# Altium footprint library Footprints.PcbLib: 132 footprints (part 1 of 9)
Each footprint in its own frame and in the unit in brackets; x right, y up, seen from the top. Pads: shape width x height; smd on the part's side, far side on the other; paste and mask are expansions set on the pad; w line width, h text height; cw(c..) or ccw(c..) is an arc to the next point about the centre after c.
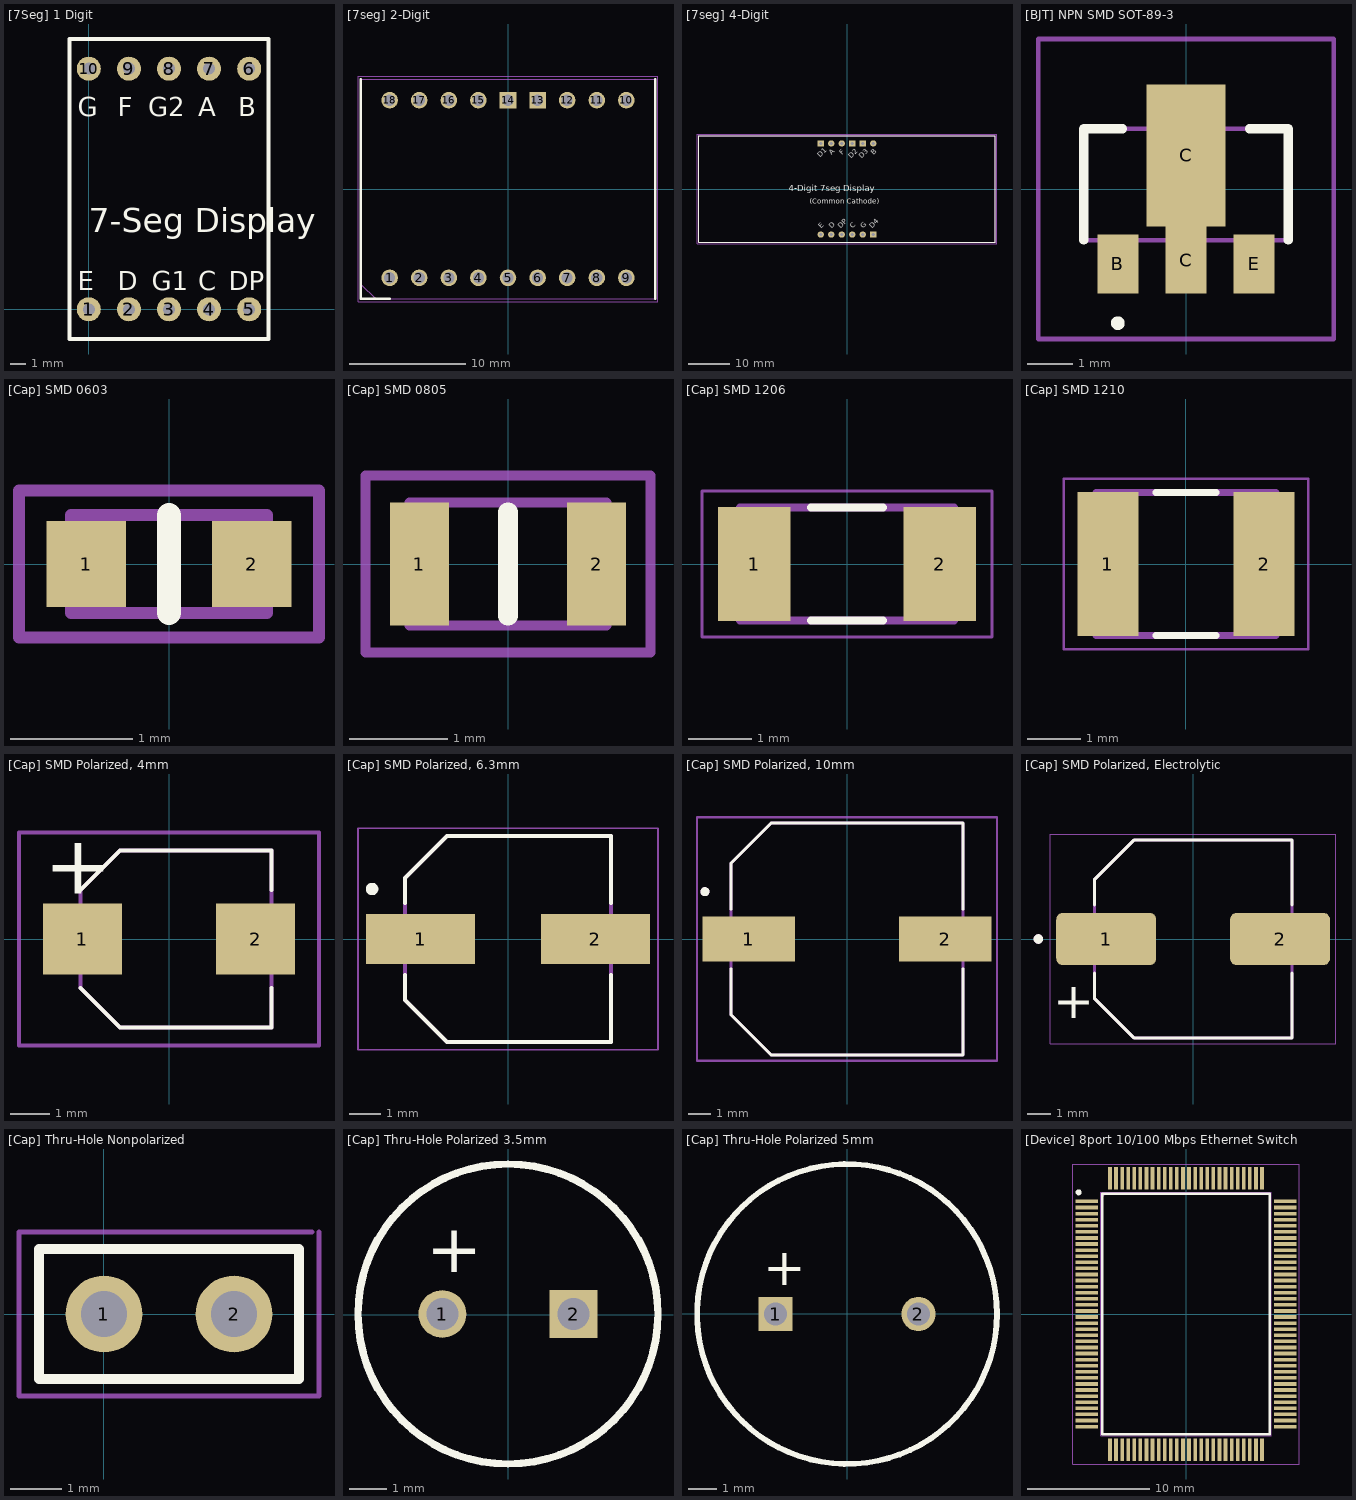
[diagram p0: the footprints below, top view; thin cyan lines are the x and y axes]

## [7Seg] 1 Digit [mil]
pads (10):
  round 60 hole 30: 1(0,0) 2(100,0) 3(200,0) 4(300,0) 5(400,0) 6(400,600) 7(300,600) 8(200,600) 9(100,600) 10(0,600)
Top Overlay:
  lines w10: -48.03,-74.02 -48.03,674.02 448.03,674.02 448.03,-74.02 -48.03,-74.02
  text "G1" at 156.7,47.24 h47.24
  text "DP" at 348.83,47.24 h47.24
  text "G2" at 148.83,481.91 h47.24
  text "G" at -27.55,481.91 h47.24
  text "F" at 72.45,481.91 h47.24
  text "A" at 272.45,481.91 h47.24
  text "B" at 372.45,481.91 h47.24
  text "C" at 272.45,47.24 h47.24
  text "D" at 72.45,47.24 h47.24
  text "E" at -27.55,47.24 h47.24
  text "7-Seg Display" at 0.06,192.03 h60
3D body "7seg display.step": height 315.35, standoff -157.48, extent -50,-74.02 450,674.02

## [7seg] 2-Digit [mm]
pads (18):
  round 1.425 hole 0.95: 1(-10.16,-7.62) 2(-7.62,-7.62) 3(-5.08,-7.62) 4(-2.54,-7.62) 5(0,-7.62) 6(2.54,-7.62) 7(5.08,-7.62) 8(7.62,-7.62) 9(10.16,-7.62) 10(10.16,7.62) 11(7.62,7.62) 12(5.08,7.62) 15(-2.54,7.62) 16(-5.08,7.62) 17(-7.62,7.62) 18(-10.16,7.62)
  rect 1.425x1.425 hole 0.95: 13(2.54,7.62) 14(0,7.62)
Top Overlay:
  lines w0.2: -12.625,9.425 -12.625,-9.425 -10.16,-9.425 ; 12.625,-9.425 12.625,9.425
Physical Outline:
  lines w0.1: -12.625,-8.155 -11.355,-9.425 ; -12.625,-9.425 12.625,-9.425 12.625,9.425 -12.625,9.425 -12.625,-9.425
Part Border:
  lines w0.05: -12.875,-9.675 12.875,-9.675 12.875,9.675 -12.875,9.675 -12.875,-9.675
3D body "HDSP-521E.stp": height 9.64, standoff -2.63, extent -12.5,-9.35 12.5,9.25

## [7seg] 4-Digit [mil]
pads (12):
  round 60 hole 30: 1(-250,-433.07) 2(-150,-433.07) 3(-50,-433.07) 4(50,-433.07) 5(150,-433.07) 7(250,433.07) 10(-50,433.07) 11(-150,433.07)
  rect 60x60 hole 30: 6(250,-433.07) 8(150,433.07) 9(50,433.07) 12(-250,433.07)
Top Overlay:
  lines w10: -1409.45,-505.91 1409.45,-505.91 1409.45,505.91 -1409.45,505.91 -1409.45,-505.91
  text "D1" at -255.57,299.07 h47.24
  text "A" at -144.43,321.34 h47.24
  text "F" at -44.43,321.34 h47.24
  text "D2" at 38.87,287.94 h47.24
  text "D3" at 138.87,287.94 h47.24
  text "B" at 255.57,321.34 h47.24
  text "4-Digit 7seg Display" at -555.92,-19.68 h59.06
  text "E" at -244.43,-377 h47.24
  text "D" at -144.43,-377 h47.24
  text "DP" at -61.13,-377 h47.24
  text "C" at 55.57,-377 h47.24
  text "G" at 155.57,-377 h47.24
  text "D4" at 238.87,-377 h47.24
  text "(Common Cathode)" at -354.22,-141.72 h47.24
Part Border:
  lines w3.94: -1427.17,-521.65 1427.17,-521.65 1427.17,521.65 -1427.17,521.65 -1427.17,-521.65
  lines w10: -1409.45,-505.91 1409.45,-505.91 1409.45,505.91 -1409.45,505.91 -1409.45,-505.91
3D body "4-digit 7seg Display.step": height 354.33, standoff -267.32, extent -1415.35,-509.84 1415.35,509.84

## [BJT] NPN SMD SOT-89-3 [mm]
pads (4):
  rect 0.9x1.3 smd: B(-1.5,-1.65) E(1.5,-1.65)
  rect 0.9x1.475 smd: C(0,-1.562)
  rect 1.733x3.125 smd: C(0,0.738)
Top Overlay:
  lines w0.2: -2.25,-1.125 -2.25,1.325 -1.4,1.325 ; 1.4,1.325 2.25,1.325 2.25,-1.125 ; -1.5,-3 ccw(c-1.5,-2.95) -1.5,-2.9 ; -1.5,-3 cw(c-1.5,-2.95) -1.5,-2.9 ; -1.5,-3 ccw(c-1.5,-2.95) -1.5,-2.9
Physical Outline:
  lines w0.1: -2.25,-1.125 2.25,-1.125 2.25,1.325 -2.25,1.325 -2.25,-1.125
Part Border:
  lines w0.1: -3.25,-3.3 3.25,-3.3 3.25,3.3 -3.25,3.3 -3.25,-3.3
3D body "ZXTN4006ZTA.stp": height 1.7, standoff 0, extent -2.25,-2.17 2.25,2.167

## [Cap] SMD 0603 [mm]
pads (2):
  rect 0.65x0.7 smd: 1(-0.675,0) 2(0.675,0)
Top Overlay:
  lines w0.2: 0,-0.4 0,0.4
Physical Outline:
  lines w0.1: -0.8,-0.4 0.8,-0.4 0.8,0.4 -0.8,0.4 -0.8,-0.4
Part Border:
  lines w0.1: -1.225,-0.6 1.225,-0.6 1.225,0.6 -1.225,0.6 -1.225,-0.6
3D body "GRM188C80J226ME01D.stp": height 0.8, standoff 0, extent -0.8,-0.45 0.8,0.45

## [Cap] SMD 0805 [mm]
pads (2):
  rect 0.6x1.25 smd: 1(-0.9,0) 2(0.9,0)
Top Overlay:
  lines w0.2: 0,-0.525 0,0.525
Physical Outline:
  lines w0.1: -1,-0.625 -1,0.625 1,0.625 1,-0.625 -1,-0.625
Part Border:
  lines w0.1: -1.45,-0.9 1.45,-0.9 1.45,0.9 -1.45,0.9 -1.45,-0.9
3D body "SMD Capacitor [0805].stp": height 1, standoff 0, extent -1,-0.625 1,0.625

## [Cap] SMD 1206 [mm]
pads (2):
  rect 1.16x1.82 smd: 1(-1.475,0) 2(1.475,0)
Top Overlay:
  lines w0.127: -0.57,-0.9 0.57,-0.9 ; -0.57,0.9 0.57,0.9
Physical Outline:
  lines w0.127: -1.7,-0.9 1.7,-0.9 1.7,0.9 -1.7,0.9 -1.7,-0.9
Part Border:
  lines w0.05: -2.308,-1.158 2.308,-1.158 2.308,1.158 -2.308,1.158 -2.308,-1.158
3D body "SMD Capacitor [1206].STEP": height 0.88, standoff 0, extent -1.6,-0.8 1.6,0.8

## [Cap] SMD 1210 [mm]
pads (2):
  rect 1.16x2.72 smd: 1(-1.475,0) 2(1.475,0)
Top Overlay:
  lines w0.127: -0.57,-1.35 0.57,-1.35 ; -0.57,1.35 0.57,1.35
Physical Outline:
  lines w0.127: -1.7,-1.35 1.7,-1.35 1.7,1.35 -1.7,1.35 -1.7,-1.35
Part Border:
  lines w0.05: -2.308,-1.608 2.308,-1.608 2.308,1.608 -2.308,1.608 -2.308,-1.608
3D body "SMD Capacitor [1210].STEP": height 1.9, standoff 0, extent -1.6,-1.25 1.6,1.25

## [Cap] SMD Polarized, 4mm [mm]
pads (2):
  rect 2x1.8 smd: 1(-2.2,0) 2(2.2,0)
Top Overlay:
  lines w0.1: -2.25,-1.25 -1.25,-2.25 2.6,-2.25 2.6,-1.25 ; -2.25,1.25 -1.25,2.25 2.6,2.25 2.6,1.25
  text "+" at -3.167,1.155 h1.5
Physical Outline:
  lines w0.1: -2.25,-1.25 -2.25,1.25 -1.25,2.25 2.6,2.25 2.6,-2.25 -1.25,-2.25 -2.25,-1.25
Part Border:
  lines w0.1: -3.81,-2.7 -3.81,2.7 3.81,2.7 3.81,-2.7 -3.81,-2.7
3D body "SMD Polarized Cap - 4mm.stp": height 5.66, standoff 0, extent -2.6,-2.25 2.6,2.25

## [Cap] SMD Polarized, 6.3mm [mm]
pads (2):
  rect 3.5x1.6 smd: 1(-2.8,0) 2(2.8,0)
Top Overlay:
  circle w0.2: c-4.35,1.6 r0.1
  lines w0.127: -3.3,-1.15 -3.3,-1.95 -1.95,-3.3 3.3,-3.3 3.3,-1.15 ; -3.3,1.15 -3.3,1.95 -1.95,3.3 3.3,3.3 3.3,1.15
Physical Outline:
  lines w0.127: -3.3,-1.95 -1.95,-3.3 3.3,-3.3 3.3,3.3 -1.95,3.3 -3.3,1.95 -3.3,-1.95
Part Border:
  lines w0.05: -4.8,-3.55 4.8,-3.55 4.8,3.55 -4.8,3.55 -4.8,-3.55
3D body "[Cap] SMD Polarized 6.3mm.stp": height 5.9, standoff 0, extent -3.65,-3.3 3.65,3.3

## [Cap] SMD Polarized, 10mm [mm]
pads (2):
  rect 4.1x2 smd: 1(-4.35,0) 2(4.35,0)
Top Overlay:
  circle w0.2: c-6.3,2.1 r0.1
  lines w0.127: -5.15,-1.32 -5.15,-3.35 -3.35,-5.15 5.15,-5.15 5.15,-1.32 ; -5.15,1.32 -5.15,3.35 -3.35,5.15 5.15,5.15 5.15,1.32
Physical Outline:
  circle w0.2: c-6.3,2.1 r0.1
  lines w0.127: -5.15,-3.35 -5.15,3.35 -3.35,5.15 5.15,5.15 5.15,-5.15 -3.35,-5.15 -5.15,-3.35
Part Border:
  lines w0.1: -6.65,-5.4 6.65,-5.4 6.65,5.4 -6.65,5.4 -6.65,-5.4
3D body "step_temp.STEP": height 9.3, standoff -0.9, extent -5.85,-5.15 5.85,5.15

## [Cap] SMD Polarized, Electrolytic [mm]
pads (2):
  rrect25% 4.2x2.2 smd: 1(-3.65,0) 2(3.65,0)
Top Overlay:
  circle w0.2: c-6.5,0 r0.1
  lines w0.127: -4.15,-1.42 -4.15,-2.49 -2.49,-4.15 4.15,-4.15 4.15,-1.42 ; -4.15,1.42 -4.15,2.49 -2.49,4.15 4.15,4.15 4.15,1.42
  text "+" at -5.88,-3.336 h1.5
Physical Outline:
  circle w0.2: c-6.5,0 r0.1
  lines w0.127: -4.15,-2.49 -4.15,2.49 -2.49,4.15 4.15,4.15 4.15,-4.15 -2.49,-4.15 -4.15,-2.49
Part Border:
  lines w0.05: -6,-4.4 -6,4.4 6,4.4 6,-4.4 -6,-4.4
3D body "SMD Electrolytic Al Cap.STEP": height 5.4, standoff 0, extent -2.5,-2.15 2.5,2.15

## [Cap] Thru-Hole Nonpolarized [mm]
pads (2):
  round 1.5 hole 0.9: 1(0,0) 2(2.54,0)
Top Overlay:
  lines w0.2: -1.27,-1.27 -1.27,1.27 3.81,1.27 3.81,-1.27 -1.27,-1.27
Part Border:
  lines w0.1: 4.064,1.6 -1.66,1.6 -1.66,-1.6 4.2,-1.6 4.2,1.6
3D body "10pF Ceramic Disc 2.STEP": height 6.35, standoff -7.68, extent -1.08,-1.25 3.62,1.25

## [Cap] Thru-Hole Polarized 3.5mm [mm] "3.5mm"
pads (2):
  round 1.275 hole 0.85: 1(-1.75,0.018)
  rect 1.275x1.275 hole 0.85: 2(1.75,0.018)
Top Overlay:
  circle w0.2: c0,0.018 r4
  text "+" at -2.183,1.128 h1.3
Part Border:
  circle w0.1: c0,0.018 r4
3D body "Thru-Hole Polarized Cap.stp": height 13, standoff -10, extent -4.244,-4.247 4.244,4.247

## [Cap] Thru-Hole Polarized 5mm [mm] "5mm"
pads (2):
  rect 1.2x1.2 hole 0.8: 1(-2.5,0)
  round 1.2 hole 0.8: 2(2.5,0)
Top Overlay:
  circle w0.2: c0,0 r5.25
  text "+" at -2.933,1.001 h1.3
Physical Outline:
  circle w0.1: c0,0 r5.25
3D body "MAL214236102E3.stp": height 22, standoff -10, extent -5.25,-5.238 5.25,5.238

## [Device] 8port 10/100 Mbps Ethernet Switch [mm] "KSZ8997"
pads (128):
  rect 1.85x0.3 smd: 1(-8.15,9.25) 2(-8.15,8.75) 3(-8.15,8.25) 4(-8.15,7.75) 5(-8.15,7.25) 6(-8.15,6.75) 7(-8.15,6.25) 8(-8.15,5.75) 9(-8.15,5.25) 10(-8.15,4.75) 11(-8.15,4.25) 12(-8.15,3.75) 13(-8.15,3.25) 14(-8.15,2.75) 15(-8.15,2.25) 16(-8.15,1.75) 17(-8.15,1.25) 18(-8.15,0.75) 19(-8.15,0.25) 20(-8.15,-0.25) 21(-8.15,-0.75) 22(-8.15,-1.25) 23(-8.15,-1.75) 24(-8.15,-2.25) 25(-8.15,-2.75) 26(-8.15,-3.25) 27(-8.15,-3.75) 28(-8.15,-4.25) 29(-8.15,-4.75) 30(-8.15,-5.25) 31(-8.15,-5.75) 32(-8.15,-6.25) 33(-8.15,-6.75) 34(-8.15,-7.25) 35(-8.15,-7.75) 36(-8.15,-8.25) 37(-8.15,-8.75) 38(-8.15,-9.25) 65(8.15,-9.25) 66(8.15,-8.75) 67(8.15,-8.25) 68(8.15,-7.75) 69(8.15,-7.25) 70(8.15,-6.75) 71(8.15,-6.25) 72(8.15,-5.75) 73(8.15,-5.25) 74(8.15,-4.75) 75(8.15,-4.25) 76(8.15,-3.75) 77(8.15,-3.25) 78(8.15,-2.75) 79(8.15,-2.25) 80(8.15,-1.75) 81(8.15,-1.25) 82(8.15,-0.75) 83(8.15,-0.25) 84(8.15,0.25) 85(8.15,0.75) 86(8.15,1.25) 87(8.15,1.75) 88(8.15,2.25) 89(8.15,2.75) 90(8.15,3.25) 91(8.15,3.75) 92(8.15,4.25) 93(8.15,4.75) 94(8.15,5.25) 95(8.15,5.75) 96(8.15,6.25) 97(8.15,6.75) 98(8.15,7.25) 99(8.15,7.75) 100(8.15,8.25) 101(8.15,8.75) 102(8.15,9.25)
  rect 0.3x1.85 smd: 39(-6.25,-11.15) 40(-5.75,-11.15) 41(-5.25,-11.15) 42(-4.75,-11.15) 43(-4.25,-11.15) 44(-3.75,-11.15) 45(-3.25,-11.15) 46(-2.75,-11.15) 47(-2.25,-11.15) 48(-1.75,-11.15) 49(-1.25,-11.15) 50(-0.75,-11.15) 51(-0.25,-11.15) 52(0.25,-11.15) 53(0.75,-11.15) 54(1.25,-11.15) 55(1.75,-11.15) 56(2.25,-11.15) 57(2.75,-11.15) 58(3.25,-11.15) 59(3.75,-11.15) 60(4.25,-11.15) 61(4.75,-11.15) 62(5.25,-11.15) 63(5.75,-11.15) 64(6.25,-11.15) 103(6.25,11.15) 104(5.75,11.15) 105(5.25,11.15) 106(4.75,11.15) 107(4.25,11.15) 108(3.75,11.15) 109(3.25,11.15) 110(2.75,11.15) 111(2.25,11.15) 112(1.75,11.15) 113(1.25,11.15) 114(0.75,11.15) 115(0.25,11.15) 116(-0.25,11.15) 117(-0.75,11.15) 118(-1.25,11.15) 119(-1.75,11.15) 120(-2.25,11.15) 121(-2.75,11.15) 122(-3.25,11.15) 123(-3.75,11.15) 124(-4.25,11.15) 125(-4.75,11.15) 126(-5.25,11.15) 127(-5.75,11.15) 128(-6.25,11.15)
Top Overlay:
  circle w0.25: c-8.825,10 r0.125
  lines w0.2: -6.875,-9.875 6.875,-9.875 6.875,9.875 -6.875,9.875 -6.875,-9.875
Physical Outline:
  lines w0.1: -7,9.5 -6.5,10 ; -7,-10 7,-10 7,10 -7,10 -7,-10
Part Border:
  lines w0.05: -9.325,-12.325 9.325,-12.325 9.325,12.325 -9.325,12.325 -9.325,-12.325
3D body "KSZ8997.stp": height 3.4, standoff 0, extent -8.6,-11.6 8.6,11.6